# Altium footprint library SOIC127P1040X275-21N.PcbLib: 1 footprints
Each footprint in its own frame and in the unit in brackets; x right, y up, seen from the top. Pads: shape width x height; smd on the part's side, far side on the other; paste and mask are expansions set on the pad; w line width, h text height; cw(c..) or ccw(c..) is an arc to the next point about the centre after c.
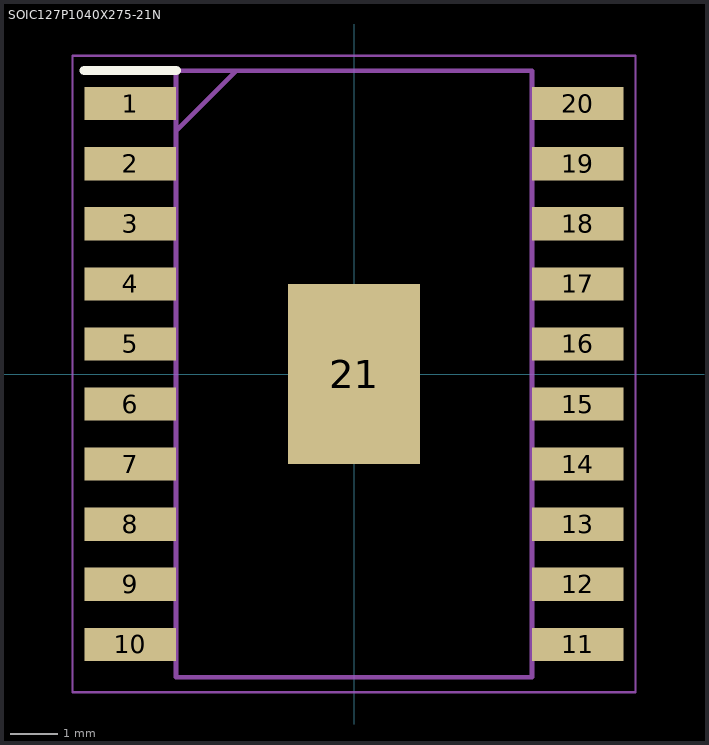
[diagram p0: the footprint, top view; thin cyan lines are the x and y axes]

## SOIC127P1040X275-21N [mm]
pads (21):
  rect 1.94x0.7 smd: 1(-4.73,5.715) 2(-4.73,4.445) 3(-4.73,3.175) 4(-4.73,1.905) 5(-4.73,0.635) 6(-4.73,-0.635) 7(-4.73,-1.905) 8(-4.73,-3.175) 9(-4.73,-4.445) 10(-4.73,-5.715) 11(4.73,-5.715) 12(4.73,-4.445) 13(4.73,-3.175) 14(4.73,-1.905) 15(4.73,-0.635) 16(4.73,0.635) 17(4.73,1.905) 18(4.73,3.175) 19(4.73,4.445) 20(4.73,5.715)
  rect 2.79x3.81 smd: 21(0,0)
Top Overlay:
  lines w0.2: -5.7,6.415 -3.76,6.415
Mechanical 15:
  lines w0.1: -3.76,5.142 -2.49,6.412 ; -3.76,-6.412 3.76,-6.412 3.76,6.412 -3.76,6.412 -3.76,-6.412
Mechanical 20:
  lines w0.05: -5.95,-6.725 5.95,-6.725 5.95,6.725 -5.95,6.725 -5.95,-6.725